# Altium integrated library Xilinx Virtex-5 FPGA.IntLib: 179 symbols (part 1 of 2)
Pins are listed as number, name and electrical type; pins without a type are passive.

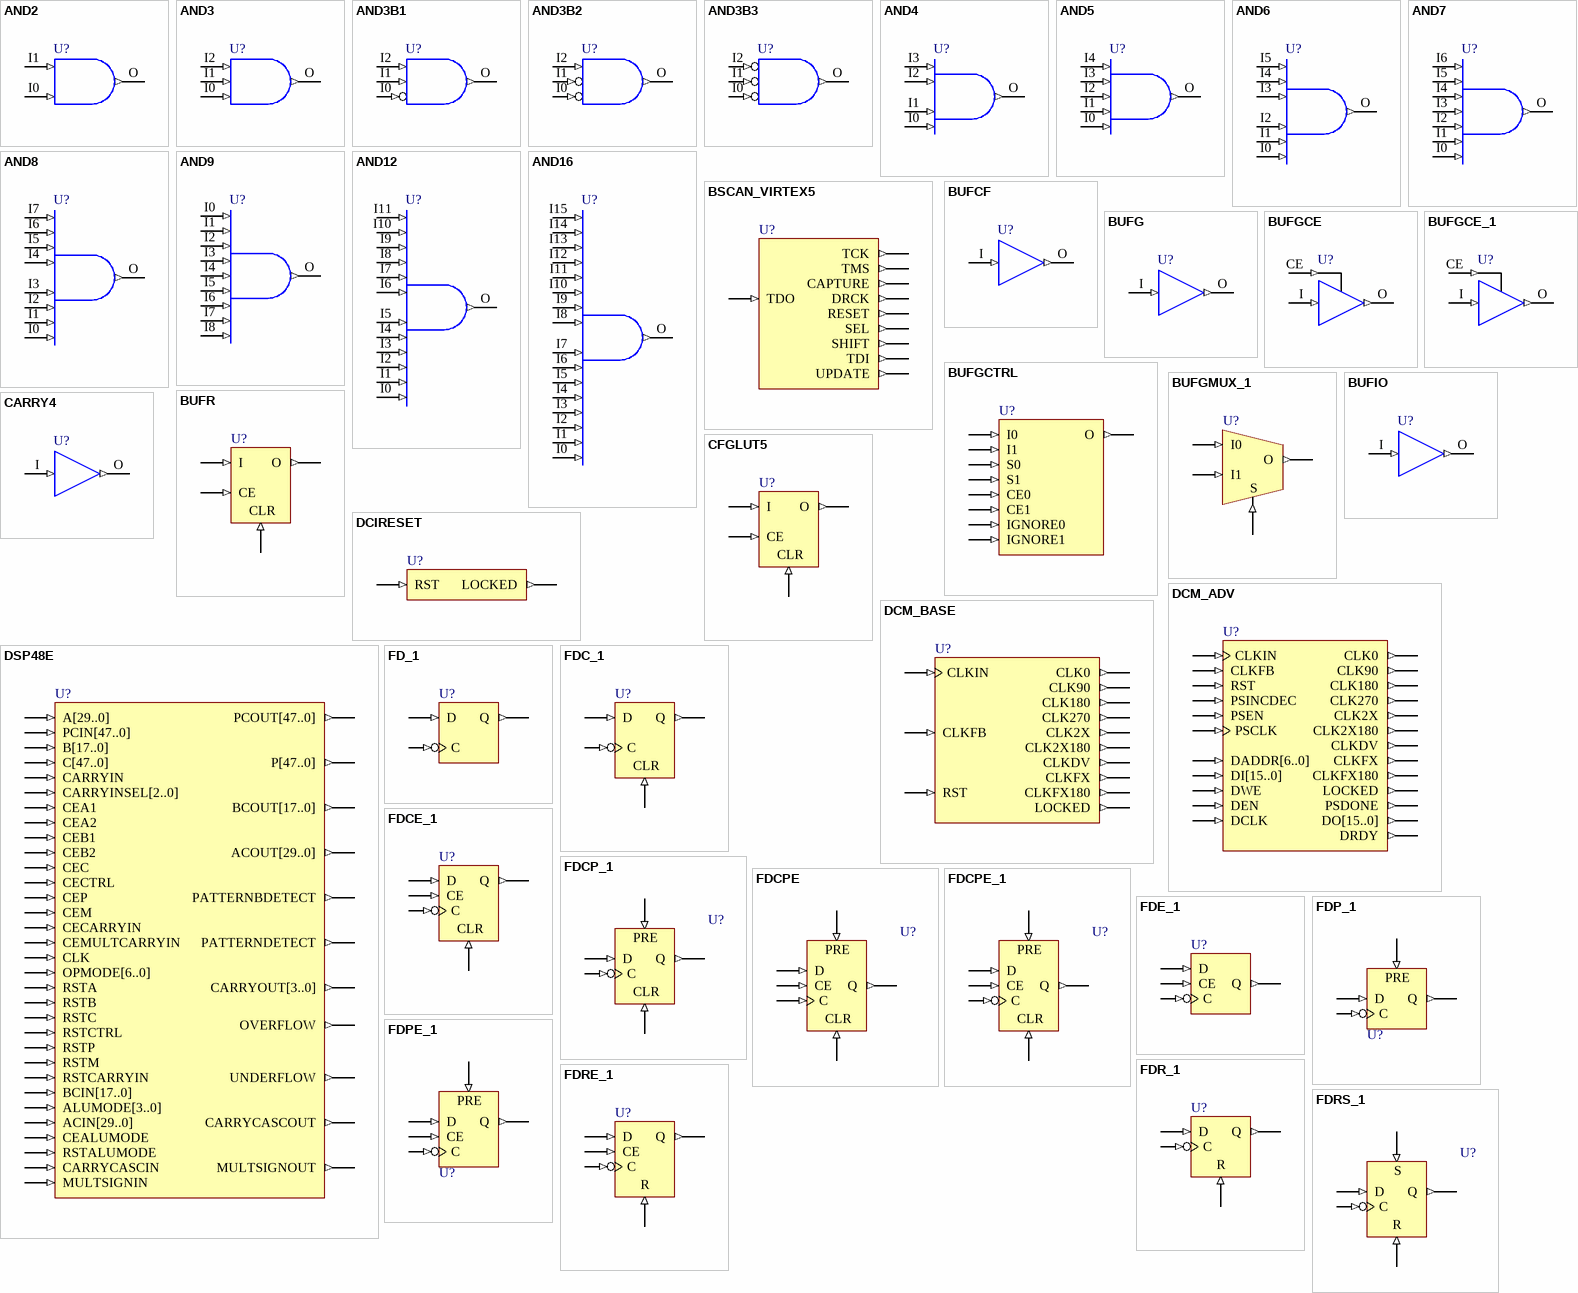
[diagram p0: symbols AND2 to FDRS_1]

## AND2
designator U?
2-Input AND Gate; FPGAVendor: Xilinx; Published: 30-Jun-2006; Publisher: Altium Limited; HelpURL: http://toolbox.xilinx.com/docsan/xilinx82/books/docs/v5lsc/v5lsc.pdf
pins: I0 (in), I1 (in), O (out)

## AND3
designator U?
3-Input AND Gate; FPGAVendor: Xilinx; Published: 30-Jun-2006; Publisher: Altium Limited; HelpURL: http://toolbox.xilinx.com/docsan/xilinx82/books/docs/v5lsc/v5lsc.pdf
pins: I0 (in), I1 (in), I2 (in), O (out)

## AND3B1
designator U?
3-Input AND Gate with One Inverted Input; FPGAVendor: Xilinx; Published: 30-Jun-2006; Publisher: Altium Limited; HelpURL: http://toolbox.xilinx.com/docsan/xilinx82/books/docs/v5lsc/v5lsc.pdf
pins: I0 (in), I1 (in), I2 (in), O (out)

## AND3B2
designator U?
3-Input AND Gate with Two Inverted Inputs; FPGAVendor: Xilinx; Published: 30-Jun-2006; Publisher: Altium Limited; HelpURL: http://toolbox.xilinx.com/docsan/xilinx82/books/docs/v5lsc/v5lsc.pdf
pins: I0 (in), I1 (in), I2 (in), O (out)

## AND3B3
designator U?
3-Input AND Gate with Three Inverted Inputs; FPGAVendor: Xilinx; Published: 30-Jun-2006; Publisher: Altium Limited; HelpURL: http://toolbox.xilinx.com/docsan/xilinx82/books/docs/v5lsc/v5lsc.pdf
pins: I0 (in), I1 (in), I2 (in), O (out)

## AND4
designator U?
4-Input AND Gate; FPGAVendor: Xilinx; Published: 30-Jun-2006; Publisher: Altium Limited; HelpURL: http://toolbox.xilinx.com/docsan/xilinx82/books/docs/v5lsc/v5lsc.pdf
pins: I0 (in), I1 (in), I2 (in), I3 (in), O (out)

## AND5
designator U?
5-Input AND Gate; FPGAVendor: Xilinx; Published: 30-Jun-2006; Publisher: Altium Limited; HelpURL: http://toolbox.xilinx.com/docsan/xilinx82/books/docs/v5lsc/v5lsc.pdf
pins: I0 (in), I1 (in), I2 (in), I3 (in), I4 (in), O (out)

## AND6
designator U?
6-Input AND Gate; FPGAVendor: Xilinx; Published: 30-Jun-2006; Publisher: Altium Limited; HelpURL: http://toolbox.xilinx.com/docsan/xilinx82/books/docs/v5lsc/v5lsc.pdf
pins: I0 (in), I1 (in), I2 (in), I3 (in), I4 (in), I5 (in), O (out)

## AND7
designator U?
7-Input AND Gate; FPGAVendor: Xilinx; Published: 30-Jun-2006; Publisher: Altium Limited; HelpURL: http://toolbox.xilinx.com/docsan/xilinx82/books/docs/v5lsc/v5lsc.pdf
pins: I0 (in), I1 (in), I2 (in), I3 (in), I4 (in), I5 (in), I6 (in), O (out)

## AND8
designator U?
8-Input AND Gate; FPGAVendor: Xilinx; Published: 30-Jun-2006; Publisher: Altium Limited; HelpURL: http://toolbox.xilinx.com/docsan/xilinx82/books/docs/v5lsc/v5lsc.pdf
pins: I0 (in), I1 (in), I2 (in), I3 (in), I4 (in), I5 (in), I6 (in), I7 (in), O (out)

## AND9
designator U?
9-Input AND Gate; FPGAVendor: Xilinx; Published: 30-Jun-2006; Publisher: Altium Limited; HelpURL: http://toolbox.xilinx.com/docsan/xilinx82/books/docs/v5lsc/v5lsc.pdf
pins: I0 (in), I1 (in), I2 (in), I3 (in), I4 (in), I5 (in), I6 (in), I7 (in), I8 (in), O (out)

## AND12
designator U?
12-Input AND Gate; FPGAVendor: Xilinx; Published: 30-Jun-2006; Publisher: Altium Limited; HelpURL: http://toolbox.xilinx.com/docsan/xilinx82/books/docs/v5lsc/v5lsc.pdf
pins: I0 (in), I1 (in), I2 (in), I3 (in), I4 (in), I5 (in), I6 (in), I7 (in), I8 (in), I9 (in), I10 (in), I11 (in), O (out)

## AND16
designator U?
16-Input AND Gate; FPGAVendor: Xilinx; Published: 30-Jun-2006; Publisher: Altium Limited; HelpURL: http://toolbox.xilinx.com/docsan/xilinx82/books/docs/v5lsc/v5lsc.pdf
pins: I0 (in), I1 (in), I2 (in), I3 (in), I4 (in), I5 (in), I6 (in), I7 (in), I8 (in), I9 (in), I10 (in), I11 (in), I12 (in), I13 (in), I14 (in), I15 (in), O (out)

## BSCAN_VIRTEX5
designator U?
Virtex-5 JTAG Boundary-Scan Logic Access; FPGAVendor: Xilinx; Published: 30-Jun-2006; Publisher: Altium Limited; HelpURL: http://toolbox.xilinx.com/docsan/xilinx82/books/docs/v5lsc/v5lsc.pdf
pins: CAPTURE (out), DRCK (out), RESET (out), SEL (out), SHIFT (out), TCK (out), TDI (out), TDO (in), TMS (out), UPDATE (out)

## BUFCF
designator U?
Global Clock Buffer; FPGAVendor: Xilinx; Published: 30-Jun-2006; Publisher: Altium Limited; HelpURL: http://toolbox.xilinx.com/docsan/xilinx82/books/docs/v5lsc/v5lsc.pdf
pins: I (in), O (out)

## BUFG
designator U?
Global Clock Buffer; FPGAVendor: Xilinx; Published: 30-Jun-2006; Publisher: Altium Limited; HelpURL: http://toolbox.xilinx.com/docsan/xilinx82/books/docs/v5lsc/v5lsc.pdf
pins: I (in), O (out)

## BUFGCE
designator U?
Global Clock MUX with Clock Enable and Output State 0; FPGAVendor: Xilinx; Published: 30-Jun-2006; Publisher: Altium Limited; HelpURL: http://toolbox.xilinx.com/docsan/xilinx82/books/docs/v5lsc/v5lsc.pdf
pins: CE (in), I (in), O (out)

## BUFGCE_1
designator U?
Global Clock MUX Buffer with Clock Enable and Output State 1; FPGAVendor: Xilinx; Published: 30-Jun-2006; Publisher: Altium Limited; HelpURL: http://toolbox.xilinx.com/docsan/xilinx82/books/docs/v5lsc/v5lsc.pdf
pins: CE (in), I (in), O (out)

## BUFGCTRL
designator U?
Global Clock MUX Buffer; FPGAVendor: Xilinx; Published: 30-Jun-2006; Publisher: Altium Limited; HelpURL: http://toolbox.xilinx.com/docsan/xilinx82/books/docs/v5lsc/v5lsc.pdf
pins: CE0 (in), CE1 (in), I0 (in), I1 (in), IGNORE0 (in), IGNORE1 (in), O (out), S0 (in), S1 (in)

## BUFGMUX_1
designator U?
Global Clock MUX with Output State 1; FPGAVendor: Xilinx; Published: 30-Jun-2006; Publisher: Altium Limited; HelpURL: http://toolbox.xilinx.com/docsan/xilinx82/books/docs/v5lsc/v5lsc.pdf
pins: I0 (in), I1 (in), O (out), S (in)

## BUFIO
designator U?
Local Clock Buffer for IO; FPGAVendor: Xilinx; Published: 30-Jun-2006; Publisher: Altium Limited; HelpURL: http://toolbox.xilinx.com/docsan/xilinx82/books/docs/v5lsc/v5lsc.pdf
pins: I (in), O (out)

## BUFR
designator U?
Local Clock Buffer for I/O and CLB; FPGAVendor: Xilinx; Published: 30-Jun-2006; Publisher: Altium Limited; HelpURL: http://toolbox.xilinx.com/docsan/xilinx82/books/docs/v5lsc/v5lsc.pdf
pins: CE (in), CLR (in), I (in), O (out)

## CARRY4
designator U?
Fast Carry Logic with Look Ahead; FPGAVendor: Xilinx; Published: 30-Jun-2006; Publisher: Altium Limited; HelpURL: http://toolbox.xilinx.com/docsan/xilinx82/books/docs/v5lsc/v5lsc.pdf
pins: I (in), O (out)

## CFGLUT5
designator U?
5-input Dynamically Reconfigurable Look-Up Table; FPGAVendor: Xilinx; Published: 30-Jun-2006; Publisher: Altium Limited; HelpURL: http://toolbox.xilinx.com/docsan/xilinx82/books/docs/v5lsc/v5lsc.pdf
pins: CE (in), CLR (in), I (in), O (out)

## DCIRESET
designator U?
DCI State Machine Reset (After Configuration Has Been Completed); FPGAVendor: Xilinx; Published: 30-Jun-2006; Publisher: Altium Limited; HelpURL: http://toolbox.xilinx.com/docsan/xilinx82/books/docs/v5lsc/v5lsc.pdf
pins: LOCKED (out), RST (in)

## DCM_ADV
designator U?
Digital Clock Manager with Advanced Features; FPGAVendor: Xilinx; Published: 30-Jun-2006; Publisher: Altium Limited; HelpURL: http://toolbox.xilinx.com/docsan/xilinx82/books/docs/v5lsc/v5lsc.pdf
pins: CLK0 (out), CLK2X (out), CLK2X180 (out), CLK90 (out), CLK180 (out), CLK270 (out), CLKDV (out), CLKFB (in), CLKFX (out), CLKFX180 (out), CLKIN (in), DADDR[6..0] (in), DCLK (in), DEN (in), DI[15..0] (in), DO[15..0] (out), DRDY (out), DWE (in), LOCKED (out), PSCLK (in), PSDONE (out), PSEN (in), PSINCDEC (in), RST (in)

## DCM_BASE
designator U?
Digital Clock Manager with Basic Features; FPGAVendor: Xilinx; Published: 30-Jun-2006; Publisher: Altium Limited; HelpURL: http://toolbox.xilinx.com/docsan/xilinx82/books/docs/v5lsc/v5lsc.pdf
pins: CLK0 (out), CLK2X (out), CLK2X180 (out), CLK90 (out), CLK180 (out), CLK270 (out), CLKDV (out), CLKFB (in), CLKFX (out), CLKFX180 (out), CLKIN (in), LOCKED (out), RST (in)

## DSP48E
designator U?
Multi-functional, Cascadable, 48-bit Output Arithmetic Logic Unit; FPGAVendor: Xilinx; Published: 30-Jun-2006; Publisher: Altium Limited; HelpURL: http://toolbox.xilinx.com/docsan/xilinx82/books/docs/v5lsc/v5lsc.pdf
pins: A[29..0] (in), ACIN[29..0] (in), ACOUT[29..0] (out), ALUMODE[3..0] (in), B[17..0] (in), BCIN[17..0] (in), BCOUT[17..0] (out), C[47..0] (in), CARRYCASCIN (in), CARRYCASCOUT (out), CARRYIN (in), CARRYINSEL[2..0] (in), CARRYOUT[3..0] (out), CEA1 (in), CEA2 (in), CEALUMODE (in), CEB1 (in), CEB2 (in), CEC (in), CECARRYIN (in), CECTRL (in), CEM (in), CEMULTCARRYIN (in), CEP (in), CLK (in), MULTSIGNIN (in), MULTSIGNOUT (out), OPMODE[6..0] (in), OVERFLOW (out), P[47..0] (out), PATTERNBDETECT (out), PATTERNDETECT (out), PCIN[47..0] (in), PCOUT[47..0] (out), RSTA (in), RSTALUMODE (in), RSTB (in), RSTC (in), RSTCARRYIN (in), RSTCTRL (in), RSTM (in), RSTP (in), UNDERFLOW (out)

## FD_1
designator U?
D Flip-Flop with Negative-Edge Clock; FPGAVendor: Xilinx; Published: 30-Jun-2006; Publisher: Altium Limited; HelpURL: http://toolbox.xilinx.com/docsan/xilinx82/books/docs/v5lsc/v5lsc.pdf
pins: C (in), D (in), Q (out)

## FDC_1
designator U?
D Flip-Flop with Negative-Edge Clock and Asynchronous Clear; FPGAVendor: Xilinx; Published: 30-Jun-2006; Publisher: Altium Limited; HelpURL: http://toolbox.xilinx.com/docsan/xilinx82/books/docs/v5lsc/v5lsc.pdf
pins: C (in), CLR (in), D (in), Q (out)

## FDCE_1
designator U?
D Flip-Flop with Negative-Edge Clock, Clock Enable, and Asynchronous Clear; FPGAVendor: Xilinx; Published: 30-Jun-2006; Publisher: Altium Limited; HelpURL: http://toolbox.xilinx.com/docsan/xilinx82/books/docs/v5lsc/v5lsc.pdf
pins: C (in), CE (in), CLR (in), D (in), Q (out)

## FDCP_1
designator U?
D Flip-Flop with Negative-Edge Clock and Asynchronous Preset and Clear; FPGAVendor: Xilinx; Published: 30-Jun-2006; Publisher: Altium Limited; HelpURL: http://toolbox.xilinx.com/docsan/xilinx82/books/docs/v5lsc/v5lsc.pdf
pins: C (in), CLR (in), D (in), PRE (in), Q (out)

## FDCPE
designator U?
D Flip-Flop with Clock Enable and Asynchronous Preset and Clear; FPGAVendor: Xilinx; Published: 30-Jun-2006; Publisher: Altium Limited; HelpURL: http://toolbox.xilinx.com/docsan/xilinx82/books/docs/v5lsc/v5lsc.pdf
pins: C (in), CE (in), CLR (in), D (in), PRE (in), Q (out)

## FDCPE_1
designator U?
D Flip-Flop with Negative-Edge Clock, Clock Enable, and Asynchronous Preset and Clear; FPGAVendor: Xilinx; Published: 30-Jun-2006; Publisher: Altium Limited; HelpURL: http://toolbox.xilinx.com/docsan/xilinx82/books/docs/v5lsc/v5lsc.pdf
pins: C (in), CE (in), CLR (in), D (in), PRE (in), Q (out)

## FDE_1
designator U?
D Flip-Flop with Negative-Edge Clock and Clock Enable; FPGAVendor: Xilinx; Published: 30-Jun-2006; Publisher: Altium Limited; HelpURL: http://toolbox.xilinx.com/docsan/xilinx82/books/docs/v5lsc/v5lsc.pdf
pins: C (in), CE (in), D (in), Q (out)

## FDP_1
designator U?
D Flip-Flop with Negative-Edge Clock and Asynchronous Preset; FPGAVendor: Xilinx; Published: 30-Jun-2006; Publisher: Altium Limited; HelpURL: http://toolbox.xilinx.com/docsan/xilinx82/books/docs/v5lsc/v5lsc.pdf
pins: C (in), D (in), PRE (in), Q (out)

## FDPE_1
designator U?
D Flip-Flop with Negative-Edge Clock, Clock Enable, and Asynchronous Preset; FPGAVendor: Xilinx; Published: 30-Jun-2006; Publisher: Altium Limited; HelpURL: http://toolbox.xilinx.com/docsan/xilinx82/books/docs/v5lsc/v5lsc.pdf
pins: C (in), CE (in), D (in), PRE (in), Q (out)

## FDR_1
designator U?
D Flip-Flop with Negative-Edge Clock and Synchronous Reset; FPGAVendor: Xilinx; Published: 30-Jun-2006; Publisher: Altium Limited; HelpURL: http://toolbox.xilinx.com/docsan/xilinx82/books/docs/v5lsc/v5lsc.pdf
pins: C (in), D (in), Q (out), R (in)

## FDRE_1
designator U?
D Flip-Flop with Negative-Clock Edge, Clock Enable, and Synchronous Reset; FPGAVendor: Xilinx; Published: 30-Jun-2006; Publisher: Altium Limited; HelpURL: http://toolbox.xilinx.com/docsan/xilinx82/books/docs/v5lsc/v5lsc.pdf
pins: C (in), CE (in), D (in), Q (out), R (in)

## FDRS_1
designator U?
D Flip-Flop with Negative-Clock Edge and Synchronous Reset and Set; FPGAVendor: Xilinx; Published: 30-Jun-2006; Publisher: Altium Limited; HelpURL: http://toolbox.xilinx.com/docsan/xilinx82/books/docs/v5lsc/v5lsc.pdf
pins: C (in), D (in), Q (out), R (in), S (in)

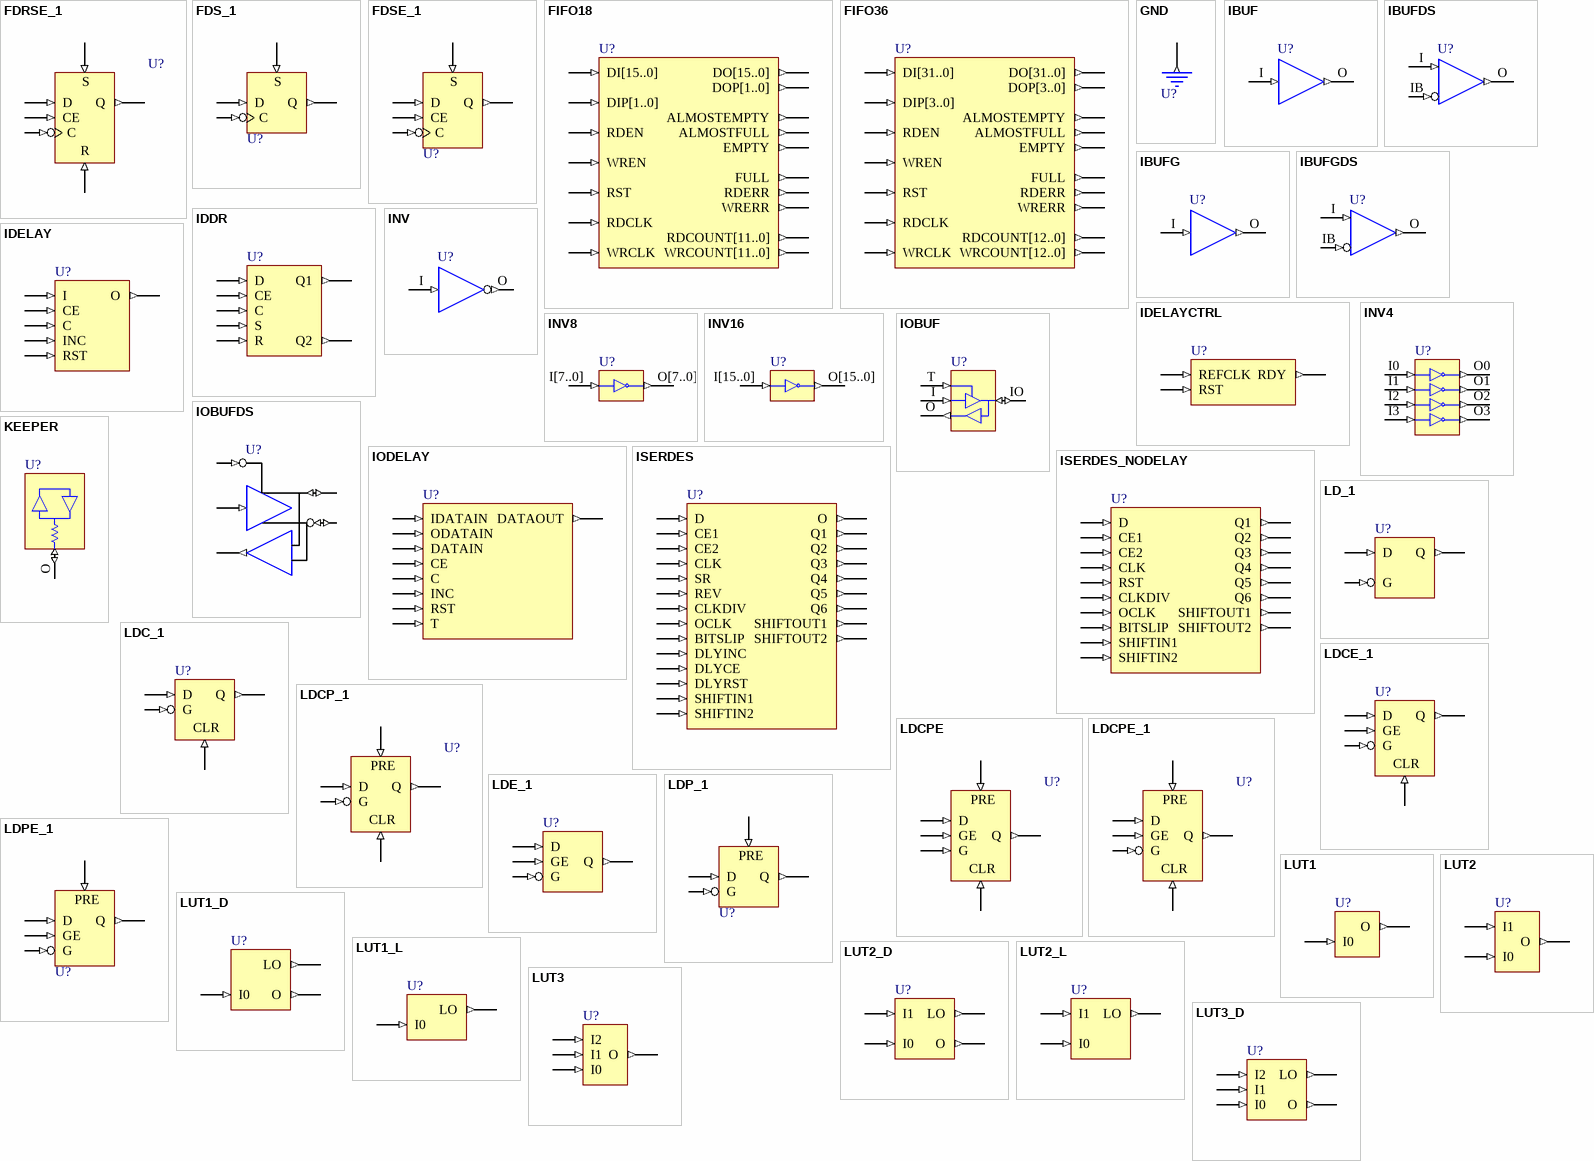
[diagram p1: symbols FDRSE_1 to LUT3_D]

## FDRSE_1
designator U?
D Flip-Flop with Negative-Clock Edge, Synchronous Reset and Set, and Clock Enable; FPGAVendor: Xilinx; Published: 30-Jun-2006; Publisher: Altium Limited; HelpURL: http://toolbox.xilinx.com/docsan/xilinx82/books/docs/v5lsc/v5lsc.pdf
pins: C (in), CE (in), D (in), Q (out), R (in), S (in)

## FDS_1
designator U?
D Flip-Flop with Negative-Edge Clock and Synchronous Set; FPGAVendor: Xilinx; Published: 30-Jun-2006; Publisher: Altium Limited; HelpURL: http://toolbox.xilinx.com/docsan/xilinx82/books/docs/v5lsc/v5lsc.pdf
pins: C (in), D (in), Q (out), S (in)

## FDSE_1
designator U?
D Flip-Flop with Negative-Edge Clock, Clock Enable, and Synchronous Set; FPGAVendor: Xilinx; Published: 30-Jun-2006; Publisher: Altium Limited; HelpURL: http://toolbox.xilinx.com/docsan/xilinx82/books/docs/v5lsc/v5lsc.pdf
pins: C (in), CE (in), D (in), Q (out), S (in)

## FIFO18
designator U?
18Kb FIFO (First In, First Out) Block RAM Memory; FPGAVendor: Xilinx; Published: 30-Jun-2006; Publisher: Altium Limited; HelpURL: http://toolbox.xilinx.com/docsan/xilinx82/books/docs/v5lsc/v5lsc.pdf
pins: ALMOSTEMPTY (out), ALMOSTFULL (out), DI[15..0] (in), DIP[1..0] (in), DO[15..0] (out), DOP[1..0] (out), EMPTY (out), FULL (out), RDCLK (in), RDCOUNT[11..0] (out), RDEN (in), RDERR (out), RST (in), WRCLK (in), WRCOUNT[11..0] (out), WREN (in), WRERR (out)

## FIFO36
designator U?
36Kb FIFO (First In, First Out) block RAM Memory; FPGAVendor: Xilinx; Published: 30-Jun-2006; Publisher: Altium Limited; HelpURL: http://toolbox.xilinx.com/docsan/xilinx82/books/docs/v5lsc/v5lsc.pdf
pins: ALMOSTEMPTY (out), ALMOSTFULL (out), DI[31..0] (in), DIP[3..0] (in), DO[31..0] (out), DOP[3..0] (out), EMPTY (out), FULL (out), RDCLK (in), RDCOUNT[12..0] (out), RDEN (in), RDERR (out), RST (in), WRCLK (in), WRCOUNT[12..0] (out), WREN (in), WRERR (out)

## GND
designator U?
Ground-Connection Signal Tag; FPGAVendor: Xilinx; Published: 30-Jun-2006; Publisher: Altium Limited; HelpURL: http://toolbox.xilinx.com/docsan/xilinx82/books/docs/v5lsc/v5lsc.pdf
pins: G (out)

## IBUF
designator U?
Single-Input Buffer; FPGAVendor: Xilinx; Published: 30-Jun-2006; Publisher: Altium Limited; HelpURL: http://toolbox.xilinx.com/docsan/xilinx82/books/docs/v5lsc/v5lsc.pdf
pins: I (in), O (out)

## IBUFDS
designator U?
Differential Signaling Input Buffer with Selectable I/O Interface; FPGAVendor: Xilinx; Published: 30-Jun-2006; Publisher: Altium Limited; HelpURL: http://toolbox.xilinx.com/docsan/xilinx82/books/docs/v5lsc/v5lsc.pdf
pins: I (in), IB (in), O (out)

## IBUFG
designator U?
Dedicated Input Buffer using the LVTTL standard; FPGAVendor: Xilinx; Published: 30-Jun-2006; Publisher: Altium Limited; HelpURL: http://toolbox.xilinx.com/docsan/xilinx82/books/docs/v5lsc/v5lsc.pdf
pins: I (in), O (out)

## IBUFGDS
designator U?
Dedicated Differential Signaling Input Buffer with Selectable I/O Interface; FPGAVendor: Xilinx; Published: 30-Jun-2006; Publisher: Altium Limited; HelpURL: http://toolbox.xilinx.com/docsan/xilinx82/books/docs/v5lsc/v5lsc.pdf
pins: I (in), IB (in), O (out)

## IDDR
designator U?
A Dedicated Input Register to Receive External Dual Data Rate (DDR) Signals into Virtex-5 FPGAs; FPGAVendor: Xilinx; Published: 30-Jun-2006; Publisher: Altium Limited; HelpURL: http://toolbox.xilinx.com/docsan/xilinx82/books/docs/v5lsc/v5lsc.pdf
pins: C (in), CE (in), D (in), Q1 (out), Q2 (out), R (in), S (in)

## IDELAY
designator U?
Dedicated input variable-tap delay chain; FPGAVendor: Xilinx; Published: 30-Jun-2006; Publisher: Altium Limited; HelpURL: http://toolbox.xilinx.com/docsan/xilinx82/books/docs/v5lsc/v5lsc.pdf
pins: C (in), CE (in), I (in), INC (in), O (out), RST (in)

## IDELAYCTRL
designator U?
Startup calibration module for IDELAY elements; FPGAVendor: Xilinx; Published: 30-Jun-2006; Publisher: Altium Limited; HelpURL: http://toolbox.xilinx.com/docsan/xilinx82/books/docs/v5lsc/v5lsc.pdf
pins: RDY (out), REFCLK (in), RST (in)

## INV
designator U?
Inverter; FPGAVendor: Xilinx; Published: 30-Jun-2006; Publisher: Altium Limited; HelpURL: http://toolbox.xilinx.com/docsan/xilinx82/books/docs/v5lsc/v5lsc.pdf
pins: I (in), O (out)

## INV4
designator U?
4 x Inverters; FPGAVendor: Xilinx; Published: 30-Jun-2006; Publisher: Altium Limited; HelpURL: http://toolbox.xilinx.com/docsan/xilinx82/books/docs/v5lsc/v5lsc.pdf
pins: I0 (in), I1 (in), I2 (in), I3 (in), O0 (out), O1 (out), O2 (out), O3 (out)

## INV8
designator U?
8 x Inverters; FPGAVendor: Xilinx; Published: 30-Jun-2006; Publisher: Altium Limited; HelpURL: http://toolbox.xilinx.com/docsan/xilinx82/books/docs/v5lsc/v5lsc.pdf
pins: I[7..0] (in), O[7..0] (out)

## INV16
designator U?
16 x Inverters; FPGAVendor: Xilinx; Published: 30-Jun-2006; Publisher: Altium Limited; HelpURL: http://toolbox.xilinx.com/docsan/xilinx82/books/docs/v5lsc/v5lsc.pdf
pins: I[15..0] (in), O[15..0] (out)

## IOBUF
designator U?
Bi-Directional Buffer using the LVTTL standard; FPGAVendor: Xilinx; Published: 30-Jun-2006; Publisher: Altium Limited; HelpURL: http://toolbox.xilinx.com/docsan/xilinx82/books/docs/v5lsc/v5lsc.pdf
pins: I (in), IO (io), O (out), T (in)

## IOBUFDS
designator U?
3-State Differential Signaling I/O Buffer with Active Low Output Enable; FPGAVendor: Xilinx; Published: 30-Jun-2006; Publisher: Altium Limited; HelpURL: http://toolbox.xilinx.com/docsan/xilinx82/books/docs/v5lsc/v5lsc.pdf
pins: I (in), IO (io), IOB (io), O (out), T (in)

## IODELAY
designator U?
Input and/or Output Fixed or Variable Delay Element; FPGAVendor: Xilinx; Published: 30-Jun-2006; Publisher: Altium Limited; HelpURL: http://toolbox.xilinx.com/docsan/xilinx82/books/docs/v5lsc/v5lsc.pdf
pins: C (in), CE (in), DATAIN (in), DATAOUT (out), IDATAIN (in), INC (in), ODATAIN (in), RST (in), T (in)

## ISERDES
designator U?
Dedicated I/O Buffer Input Deserializer; FPGAVendor: Xilinx; Published: 30-Jun-2006; Publisher: Altium Limited; HelpURL: http://toolbox.xilinx.com/docsan/xilinx82/books/docs/v5lsc/v5lsc.pdf
pins: BITSLIP (in), CE1 (in), CE2 (in), CLK (in), CLKDIV (in), D (in), DLYCE (in), DLYINC (in), DLYRST (in), O (out), OCLK (in), Q1 (out), Q2 (out), Q3 (out), Q4 (out), Q5 (out), Q6 (out), REV (in), SHIFTIN1 (in), SHIFTIN2 (in), SHIFTOUT1 (out), SHIFTOUT2 (out), SR (in)

## ISERDES_NODELAY
designator U?
Input SERial/DESerializer; FPGAVendor: Xilinx; Published: 30-Jun-2006; Publisher: Altium Limited; HelpURL: http://toolbox.xilinx.com/docsan/xilinx82/books/docs/v5lsc/v5lsc.pdf
pins: BITSLIP (in), CE1 (in), CE2 (in), CLK (in), CLKDIV (in), D (in), OCLK (in), Q1 (out), Q2 (out), Q3 (out), Q4 (out), Q5 (out), Q6 (out), RST (in), SHIFTIN1 (in), SHIFTIN2 (in), SHIFTOUT1 (out), SHIFTOUT2 (out)

## KEEPER
designator U?
KEEPER Symbol; FPGAVendor: Xilinx; Published: 30-Jun-2006; Publisher: Altium Limited; HelpURL: http://toolbox.xilinx.com/docsan/xilinx82/books/docs/v5lsc/v5lsc.pdf
pins: O (io)

## LD_1
designator U?
Transparent Data Latch with Inverted Gate; FPGAVendor: Xilinx; Published: 30-Jun-2006; Publisher: Altium Limited; HelpURL: http://toolbox.xilinx.com/docsan/xilinx82/books/docs/v5lsc/v5lsc.pdf
pins: D (in), G (in), Q (out)

## LDC_1
designator U?
Transparent Data Latch with Asynchronous Clear and Inverted Gate; FPGAVendor: Xilinx; Published: 30-Jun-2006; Publisher: Altium Limited; HelpURL: http://toolbox.xilinx.com/docsan/xilinx82/books/docs/v5lsc/v5lsc.pdf
pins: CLR (in), D (in), G (in), Q (out)

## LDCE_1
designator U?
Transparent Data Latch with Asynchronous Clear, Gate Enable,  and Inverted Gate; FPGAVendor: Xilinx; Published: 30-Jun-2006; Publisher: Altium Limited; HelpURL: http://toolbox.xilinx.com/docsan/xilinx82/books/docs/v5lsc/v5lsc.pdf
pins: CLR (in), D (in), G (in), GE (in), Q (out)

## LDCP_1
designator U?
Transparent Data Latch with Asynchronous Clear and Preset and Inverted Gate; FPGAVendor: Xilinx; Published: 30-Jun-2006; Publisher: Altium Limited; HelpURL: http://toolbox.xilinx.com/docsan/xilinx82/books/docs/v5lsc/v5lsc.pdf
pins: CLR (in), D (in), G (in), PRE (in), Q (out)

## LDCPE
designator U?
Transparent Data Latch with Asynchronous Clear and Preset and Gate Enable; FPGAVendor: Xilinx; Published: 30-Jun-2006; Publisher: Altium Limited; HelpURL: http://toolbox.xilinx.com/docsan/xilinx82/books/docs/v5lsc/v5lsc.pdf
pins: CLR (in), D (in), G (in), GE (in), PRE (in), Q (out)

## LDCPE_1
designator U?
Transparent Data Latch with Asynchronous Clear and Preset, Gate Enable, and Inverted Gate; FPGAVendor: Xilinx; Published: 30-Jun-2006; Publisher: Altium Limited; HelpURL: http://toolbox.xilinx.com/docsan/xilinx82/books/docs/v5lsc/v5lsc.pdf
pins: CLR (in), D (in), G (in), GE (in), PRE (in), Q (out)

## LDE_1
designator U?
Transparent Data Latch with Gate Enable and Inverted Gate; FPGAVendor: Xilinx; Published: 30-Jun-2006; Publisher: Altium Limited; HelpURL: http://toolbox.xilinx.com/docsan/xilinx82/books/docs/v5lsc/v5lsc.pdf
pins: D (in), G (in), GE (in), Q (out)

## LDP_1
designator U?
Transparent Data Latch with Asynchronous Preset and Inverted Gate; FPGAVendor: Xilinx; Published: 30-Jun-2006; Publisher: Altium Limited; HelpURL: http://toolbox.xilinx.com/docsan/xilinx82/books/docs/v5lsc/v5lsc.pdf
pins: D (in), G (in), PRE (in), Q (out)

## LDPE_1
designator U?
Transparent Data Latch with Asynchronous Preset, Gate Enable, and Inverted Gate; FPGAVendor: Xilinx; Published: 30-Jun-2006; Publisher: Altium Limited; HelpURL: http://toolbox.xilinx.com/docsan/xilinx82/books/docs/v5lsc/v5lsc.pdf
pins: D (in), G (in), GE (in), PRE (in), Q (out)

## LUT1
designator U?
1-Bit Look-Up-Table with General Output; FPGAVendor: Xilinx; Published: 30-Jun-2006; Publisher: Altium Limited; HelpURL: http://toolbox.xilinx.com/docsan/xilinx82/books/docs/v5lsc/v5lsc.pdf
pins: I0 (in), O (out)

## LUT1_D
designator U?
1-Bit Look-Up-Table with Dual Output; FPGAVendor: Xilinx; Published: 30-Jun-2006; Publisher: Altium Limited; HelpURL: http://toolbox.xilinx.com/docsan/xilinx82/books/docs/v5lsc/v5lsc.pdf
pins: I0 (in), LO (out), O (out)

## LUT1_L
designator U?
1-Bit Look-Up-Table with Local Output; FPGAVendor: Xilinx; Published: 30-Jun-2006; Publisher: Altium Limited; HelpURL: http://toolbox.xilinx.com/docsan/xilinx82/books/docs/v5lsc/v5lsc.pdf
pins: I0 (in), LO (out)

## LUT2
designator U?
2-Bit Look-Up-Table with General Output; FPGAVendor: Xilinx; Published: 30-Jun-2006; Publisher: Altium Limited; HelpURL: http://toolbox.xilinx.com/docsan/xilinx82/books/docs/v5lsc/v5lsc.pdf
pins: I0 (in), I1 (in), O (out)

## LUT2_D
designator U?
2-Bit Look-Up-Table with Dual Output; FPGAVendor: Xilinx; Published: 30-Jun-2006; Publisher: Altium Limited; HelpURL: http://toolbox.xilinx.com/docsan/xilinx82/books/docs/v5lsc/v5lsc.pdf
pins: I0 (in), I1 (in), LO (out), O (out)

## LUT2_L
designator U?
2-Bit Look-Up-Table with Local Output; FPGAVendor: Xilinx; Published: 30-Jun-2006; Publisher: Altium Limited; HelpURL: http://toolbox.xilinx.com/docsan/xilinx82/books/docs/v5lsc/v5lsc.pdf
pins: I0 (in), I1 (in), LO (out)

## LUT3
designator U?
3-Bit Look-Up-Table with General Output; FPGAVendor: Xilinx; Published: 30-Jun-2006; Publisher: Altium Limited; HelpURL: http://toolbox.xilinx.com/docsan/xilinx82/books/docs/v5lsc/v5lsc.pdf
pins: I0 (in), I1 (in), I2 (in), O (out)

## LUT3_D
designator U?
3-Bit Look-Up-Table with Dual Output; FPGAVendor: Xilinx; Published: 30-Jun-2006; Publisher: Altium Limited; HelpURL: http://toolbox.xilinx.com/docsan/xilinx82/books/docs/v5lsc/v5lsc.pdf
pins: I0 (in), I1 (in), I2 (in), LO (out), O (out)

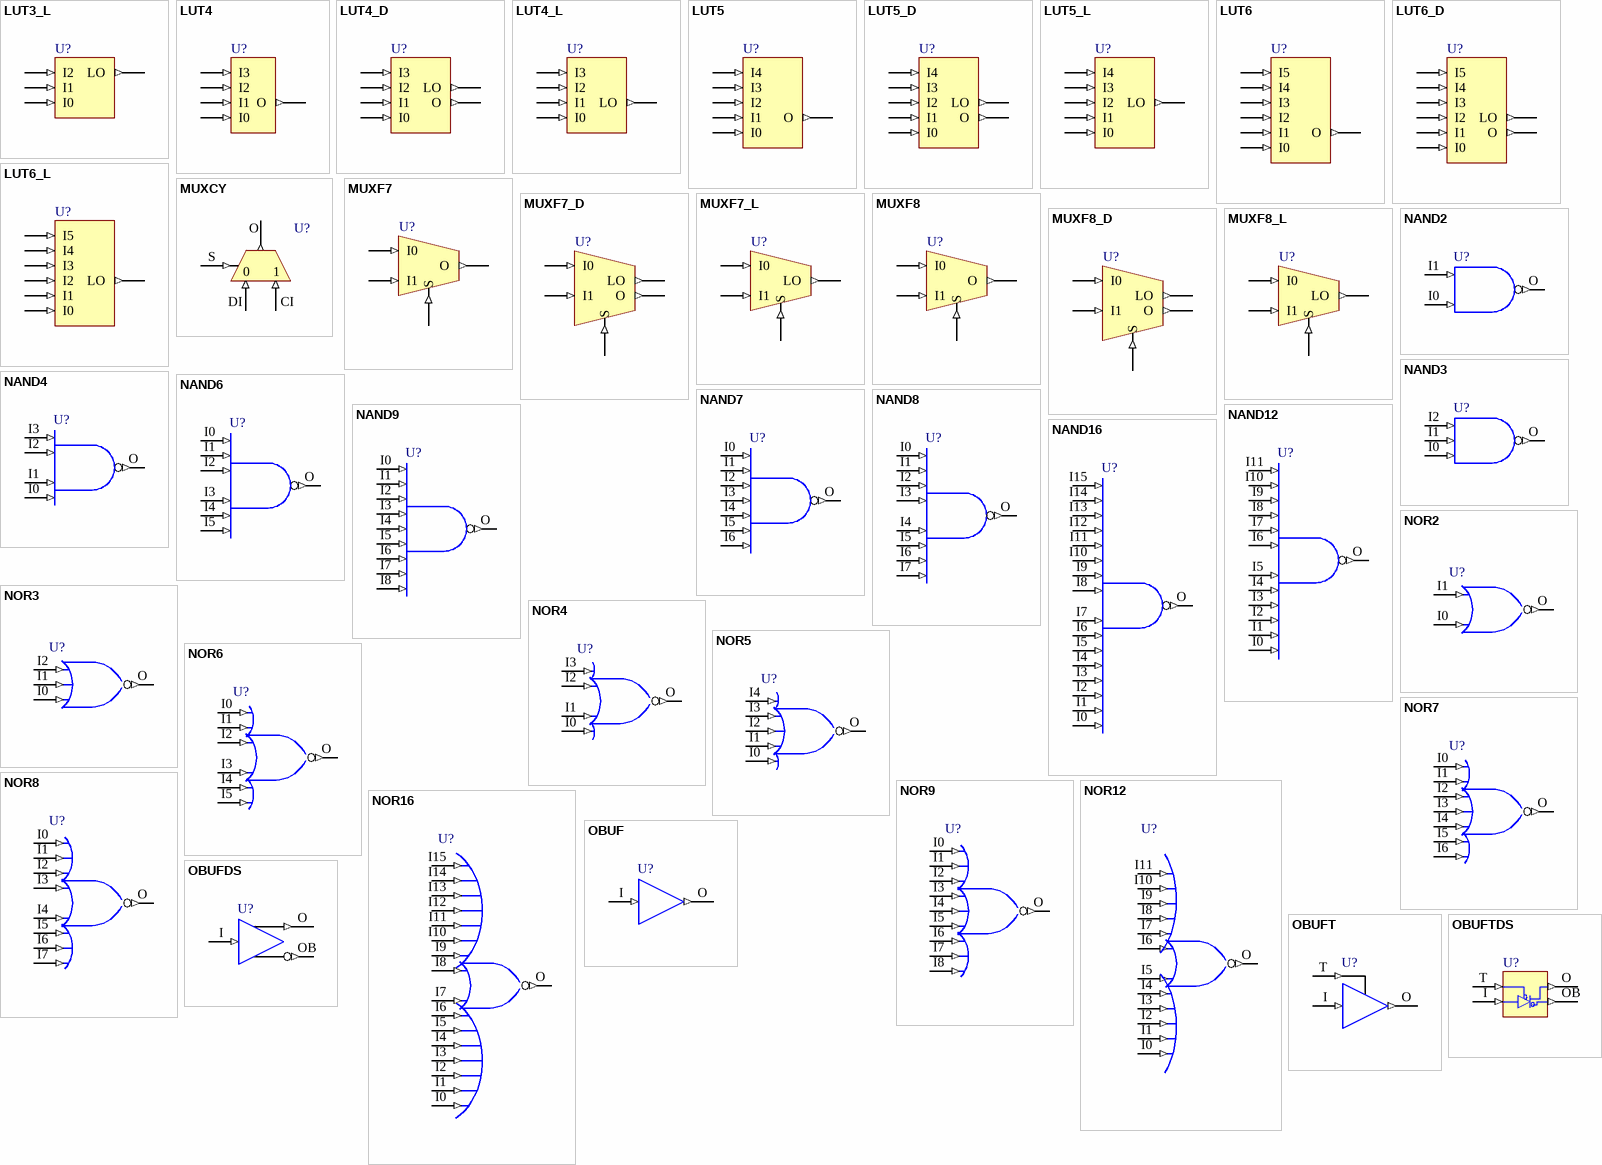
[diagram p2: symbols LUT3_L to OBUFTDS]

## LUT3_L
designator U?
3-Bit Look-Up-Table with Local Output; FPGAVendor: Xilinx; Published: 30-Jun-2006; Publisher: Altium Limited; HelpURL: http://toolbox.xilinx.com/docsan/xilinx82/books/docs/v5lsc/v5lsc.pdf
pins: I0 (in), I1 (in), I2 (in), LO (out)

## LUT4
designator U?
4-Bit Look-Up-Table with General Output; FPGAVendor: Xilinx; Published: 30-Jun-2006; Publisher: Altium Limited; HelpURL: http://toolbox.xilinx.com/docsan/xilinx82/books/docs/v5lsc/v5lsc.pdf
pins: I0 (in), I1 (in), I2 (in), I3 (in), O (out)

## LUT4_D
designator U?
4-Bit Look-Up-Table with Dual Output; FPGAVendor: Xilinx; Published: 30-Jun-2006; Publisher: Altium Limited; HelpURL: http://toolbox.xilinx.com/docsan/xilinx82/books/docs/v5lsc/v5lsc.pdf
pins: I0 (in), I1 (in), I2 (in), I3 (in), LO (out), O (out)

## LUT4_L
designator U?
4-Bit Look-Up-Table with Local Output; FPGAVendor: Xilinx; Published: 30-Jun-2006; Publisher: Altium Limited; HelpURL: http://toolbox.xilinx.com/docsan/xilinx82/books/docs/v5lsc/v5lsc.pdf
pins: I0 (in), I1 (in), I2 (in), I3 (in), LO (out)

## LUT5
designator U?
5 Input, 1 Output, Look-Up-Table; FPGAVendor: Xilinx; Published: 30-Jun-2006; Publisher: Altium Limited; HelpURL: http://toolbox.xilinx.com/docsan/xilinx82/books/docs/v5lsc/v5lsc.pdf
pins: I0 (in), I1 (in), I2 (in), I3 (in), I4 (in), O (out)

## LUT5_D
designator U?
5 Input, 1 Output, Look-Up-Table; FPGAVendor: Xilinx; Published: 30-Jun-2006; Publisher: Altium Limited; HelpURL: http://toolbox.xilinx.com/docsan/xilinx82/books/docs/v5lsc/v5lsc.pdf
pins: I0 (in), I1 (in), I2 (in), I3 (in), I4 (in), LO (out), O (out)

## LUT5_L
designator U?
5 Input, 1 Output, Look-Up-Table; FPGAVendor: Xilinx; Published: 30-Jun-2006; Publisher: Altium Limited; HelpURL: http://toolbox.xilinx.com/docsan/xilinx82/books/docs/v5lsc/v5lsc.pdf
pins: I0 (in), I1 (in), I2 (in), I3 (in), I4 (in), LO (out)

## LUT6
designator U?
6 Input, 1 Output, Look-Up-Table; FPGAVendor: Xilinx; Published: 30-Jun-2006; Publisher: Altium Limited; HelpURL: http://toolbox.xilinx.com/docsan/xilinx82/books/docs/v5lsc/v5lsc.pdf
pins: I0 (in), I1 (in), I2 (in), I3 (in), I4 (in), I5 (in), O (out)

## LUT6_D
designator U?
6 Input, 1 Output, Look-Up-Table; FPGAVendor: Xilinx; Published: 30-Jun-2006; Publisher: Altium Limited; HelpURL: http://toolbox.xilinx.com/docsan/xilinx82/books/docs/v5lsc/v5lsc.pdf
pins: I0 (in), I1 (in), I2 (in), I3 (in), I4 (in), I5 (in), LO (out), O (out)

## LUT6_L
designator U?
6 Input, 1 Output, Look-Up-Table; FPGAVendor: Xilinx; Published: 30-Jun-2006; Publisher: Altium Limited; HelpURL: http://toolbox.xilinx.com/docsan/xilinx82/books/docs/v5lsc/v5lsc.pdf
pins: I0 (in), I1 (in), I2 (in), I3 (in), I4 (in), I5 (in), LO (out)

## MUXCY
designator U?
2-to-1 Multiplexer for Carry Logic with General Output; FPGAVendor: Xilinx; Published: 30-Jun-2006; Publisher: Altium Limited; HelpURL: http://toolbox.xilinx.com/docsan/xilinx82/books/docs/v5lsc/v5lsc.pdf
pins: CI (in), DI (in), O (out), S (in)
text: 0; 1

## MUXF7
designator U?
2-to-1 Look-Up Table Multiplexer with General Output; FPGAVendor: Xilinx; Published: 30-Jun-2006; Publisher: Altium Limited; HelpURL: http://toolbox.xilinx.com/docsan/xilinx82/books/docs/v5lsc/v5lsc.pdf
pins: I0 (in), I1 (in), O (out), S (in)

## MUXF7_D
designator U?
2-to-1 Look-Up Table Multiplexer with Dual Output; FPGAVendor: Xilinx; Published: 30-Jun-2006; Publisher: Altium Limited; HelpURL: http://toolbox.xilinx.com/docsan/xilinx82/books/docs/v5lsc/v5lsc.pdf
pins: I0 (in), I1 (in), LO (out), O (out), S (in)

## MUXF7_L
designator U?
2-to-1 Look-Up Table Multiplexer with Local Output; FPGAVendor: Xilinx; Published: 30-Jun-2006; Publisher: Altium Limited; HelpURL: http://toolbox.xilinx.com/docsan/xilinx82/books/docs/v5lsc/v5lsc.pdf
pins: I0 (in), I1 (in), LO (out), S (in)

## MUXF8
designator U?
2-to-1 Look-Up Table Multiplexer with General Output; FPGAVendor: Xilinx; Published: 30-Jun-2006; Publisher: Altium Limited; HelpURL: http://toolbox.xilinx.com/docsan/xilinx82/books/docs/v5lsc/v5lsc.pdf
pins: I0 (in), I1 (in), O (out), S (in)

## MUXF8_D
designator U?
2-to-1 Look-Up Table Multiplexer with Dual Output; FPGAVendor: Xilinx; Published: 30-Jun-2006; Publisher: Altium Limited; HelpURL: http://toolbox.xilinx.com/docsan/xilinx82/books/docs/v5lsc/v5lsc.pdf
pins: I0 (in), I1 (in), LO (out), O (out), S (in)

## MUXF8_L
designator U?
2-to-1 Look-Up Table Multiplexer with Local Output; FPGAVendor: Xilinx; Published: 30-Jun-2006; Publisher: Altium Limited; HelpURL: http://toolbox.xilinx.com/docsan/xilinx82/books/docs/v5lsc/v5lsc.pdf
pins: I0 (in), I1 (in), LO (out), S (in)

## NAND2
designator U?
2-Input NAND Gate; FPGAVendor: Xilinx; Published: 30-Jun-2006; Publisher: Altium Limited; HelpURL: http://toolbox.xilinx.com/docsan/xilinx82/books/docs/v5lsc/v5lsc.pdf
pins: I0 (in), I1 (in), O (out)

## NAND3
designator U?
3-Input NAND Gate; FPGAVendor: Xilinx; Published: 30-Jun-2006; Publisher: Altium Limited; HelpURL: http://toolbox.xilinx.com/docsan/xilinx82/books/docs/v5lsc/v5lsc.pdf
pins: I0 (in), I1 (in), I2 (in), O (out)

## NAND4
designator U?
4-Input NAND Gate; FPGAVendor: Xilinx; Published: 30-Jun-2006; Publisher: Altium Limited; HelpURL: http://toolbox.xilinx.com/docsan/xilinx82/books/docs/v5lsc/v5lsc.pdf
pins: I0 (in), I1 (in), I2 (in), I3 (in), O (out)

## NAND6
designator U?
6-Input NAND Gate; FPGAVendor: Xilinx; Published: 30-Jun-2006; Publisher: Altium Limited; HelpURL: http://toolbox.xilinx.com/docsan/xilinx82/books/docs/v5lsc/v5lsc.pdf
pins: I0 (in), I1 (in), I2 (in), I3 (in), I4 (in), I5 (in), O (out)

## NAND7
designator U?
7-Input NAND Gate; FPGAVendor: Xilinx; Published: 30-Jun-2006; Publisher: Altium Limited; HelpURL: http://toolbox.xilinx.com/docsan/xilinx82/books/docs/v5lsc/v5lsc.pdf
pins: I0 (in), I1 (in), I2 (in), I3 (in), I4 (in), I5 (in), I6 (in), O (out)

## NAND8
designator U?
8-Input NAND Gate; FPGAVendor: Xilinx; Published: 30-Jun-2006; Publisher: Altium Limited; HelpURL: http://toolbox.xilinx.com/docsan/xilinx82/books/docs/v5lsc/v5lsc.pdf
pins: I0 (in), I1 (in), I2 (in), I3 (in), I4 (in), I5 (in), I6 (in), I7 (in), O (out)

## NAND9
designator U?
9-Input NAND Gate; FPGAVendor: Xilinx; Published: 30-Jun-2006; Publisher: Altium Limited; HelpURL: http://toolbox.xilinx.com/docsan/xilinx82/books/docs/v5lsc/v5lsc.pdf
pins: I0 (in), I1 (in), I2 (in), I3 (in), I4 (in), I5 (in), I6 (in), I7 (in), I8 (in), O (out)

## NAND12
designator U?
12-Input NAND Gate; FPGAVendor: Xilinx; Published: 30-Jun-2006; Publisher: Altium Limited; HelpURL: http://toolbox.xilinx.com/docsan/xilinx82/books/docs/v5lsc/v5lsc.pdf
pins: I0 (in), I1 (in), I2 (in), I3 (in), I4 (in), I5 (in), I6 (in), I7 (in), I8 (in), I9 (in), I10 (in), I11 (in), O (out)

## NAND16
designator U?
16-Input NAND Gate; FPGAVendor: Xilinx; Published: 30-Jun-2006; Publisher: Altium Limited; HelpURL: http://toolbox.xilinx.com/docsan/xilinx82/books/docs/v5lsc/v5lsc.pdf
pins: I0 (in), I1 (in), I2 (in), I3 (in), I4 (in), I5 (in), I6 (in), I7 (in), I8 (in), I9 (in), I10 (in), I11 (in), I12 (in), I13 (in), I14 (in), I15 (in), O (out)

## NOR2
designator U?
2-Input NOR Gate; FPGAVendor: Xilinx; Published: 30-Jun-2006; Publisher: Altium Limited; HelpURL: http://toolbox.xilinx.com/docsan/xilinx82/books/docs/v5lsc/v5lsc.pdf
pins: I0 (in), I1 (in), O (out)

## NOR3
designator U?
3-Input NOR Gate; FPGAVendor: Xilinx; Published: 30-Jun-2006; Publisher: Altium Limited; HelpURL: http://toolbox.xilinx.com/docsan/xilinx82/books/docs/v5lsc/v5lsc.pdf
pins: I0 (in), I1 (in), I2 (in), O (out)

## NOR4
designator U?
4-Input NOR Gate; FPGAVendor: Xilinx; Published: 30-Jun-2006; Publisher: Altium Limited; HelpURL: http://toolbox.xilinx.com/docsan/xilinx82/books/docs/v5lsc/v5lsc.pdf
pins: I0 (in), I1 (in), I2 (in), I3 (in), O (out)

## NOR5
designator U?
5-Input NOR Gate; FPGAVendor: Xilinx; Published: 30-Jun-2006; Publisher: Altium Limited; HelpURL: http://toolbox.xilinx.com/docsan/xilinx82/books/docs/v5lsc/v5lsc.pdf
pins: I0 (in), I1 (in), I2 (in), I3 (in), I4 (in), O (out)

## NOR6
designator U?
6-Input NOR Gate; FPGAVendor: Xilinx; Published: 30-Jun-2006; Publisher: Altium Limited; HelpURL: http://toolbox.xilinx.com/docsan/xilinx82/books/docs/v5lsc/v5lsc.pdf
pins: I0 (in), I1 (in), I2 (in), I3 (in), I4 (in), I5 (in), O (out)

## NOR7
designator U?
7-Input NOR Gate; FPGAVendor: Xilinx; Published: 30-Jun-2006; Publisher: Altium Limited; HelpURL: http://toolbox.xilinx.com/docsan/xilinx82/books/docs/v5lsc/v5lsc.pdf
pins: I0 (in), I1 (in), I2 (in), I3 (in), I4 (in), I5 (in), I6 (in), O (out)

## NOR8
designator U?
8-Input NOR Gate; FPGAVendor: Xilinx; Published: 30-Jun-2006; Publisher: Altium Limited; HelpURL: http://toolbox.xilinx.com/docsan/xilinx82/books/docs/v5lsc/v5lsc.pdf
pins: I0 (in), I1 (in), I2 (in), I3 (in), I4 (in), I5 (in), I6 (in), I7 (in), O (out)

## NOR9
designator U?
9-Input NOR Gate; FPGAVendor: Xilinx; Published: 30-Jun-2006; Publisher: Altium Limited; HelpURL: http://toolbox.xilinx.com/docsan/xilinx82/books/docs/v5lsc/v5lsc.pdf
pins: I0 (in), I1 (in), I2 (in), I3 (in), I4 (in), I5 (in), I6 (in), I7 (in), I8 (in), O (out)

## NOR12
designator U?
12-Input NOR Gate; FPGAVendor: Xilinx; Published: 30-Jun-2006; Publisher: Altium Limited; HelpURL: http://toolbox.xilinx.com/docsan/xilinx82/books/docs/v5lsc/v5lsc.pdf
pins: I0 (in), I1 (in), I2 (in), I3 (in), I4 (in), I5 (in), I6 (in), I7 (in), I8 (in), I9 (in), I10 (in), I11 (in), O (out)

## NOR16
designator U?
16-Input NOR Gate; FPGAVendor: Xilinx; Published: 30-Jun-2006; Publisher: Altium Limited; HelpURL: http://toolbox.xilinx.com/docsan/xilinx82/books/docs/v5lsc/v5lsc.pdf
pins: I0 (in), I1 (in), I2 (in), I3 (in), I4 (in), I5 (in), I6 (in), I7 (in), I8 (in), I9 (in), I10 (in), I11 (in), I12 (in), I13 (in), I14 (in), I15 (in), O (out)

## OBUF
designator U?
Single-Output Buffer (using the LVTTL standard); FPGAVendor: Xilinx; Published: 30-Jun-2006; Publisher: Altium Limited; HelpURL: http://toolbox.xilinx.com/docsan/xilinx82/books/docs/v5lsc/v5lsc.pdf
pins: I (in), O (out)

## OBUFDS
designator U?
Differential Signaling Output Buffer with Selectable I/O Interface; FPGAVendor: Xilinx; Published: 30-Jun-2006; Publisher: Altium Limited; HelpURL: http://toolbox.xilinx.com/docsan/xilinx82/books/docs/v5lsc/v5lsc.pdf
pins: I (in), O (out), OB (out)

## OBUFT
designator U?
Single 3-State Output Buffer with Active-Low Output Enable; FPGAVendor: Xilinx; Published: 30-Jun-2006; Publisher: Altium Limited; HelpURL: http://toolbox.xilinx.com/docsan/xilinx82/books/docs/v5lsc/v5lsc.pdf
pins: I (in), O (out), T (in)

## OBUFTDS
designator U?
3-State Output Buffer with Differential Signaling, Active-Low Output Enable, and Selectable I/O Interface; FPGAVendor: Xilinx; Published: 30-Jun-2006; Publisher: Altium Limited; HelpURL: http://toolbox.xilinx.com/docsan/xilinx82/books/docs/v5lsc/v5lsc.pdf
pins: I (in), O (out), OB (out), T (in)

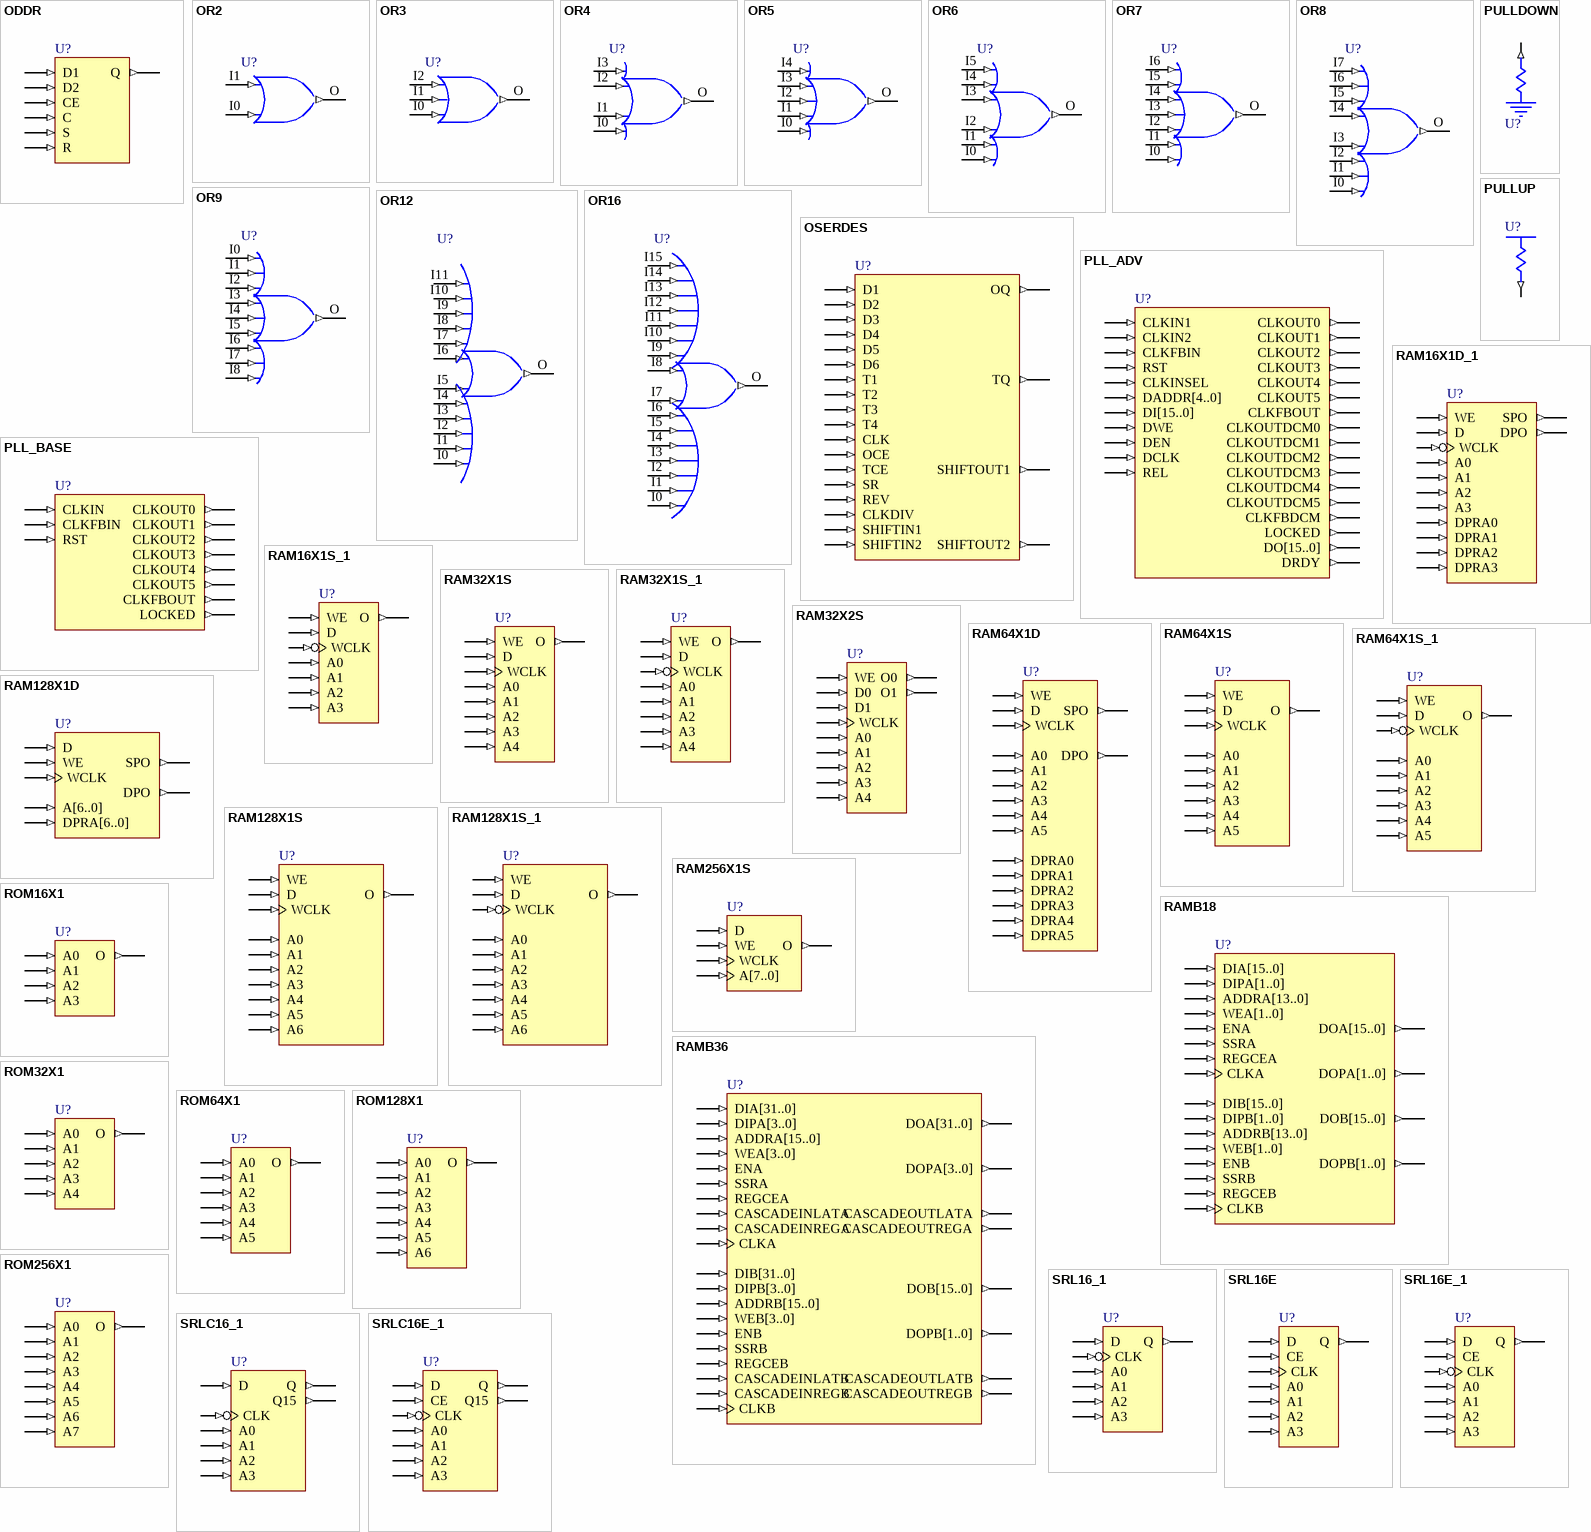
[diagram p3: symbols ODDR to SRLC16E_1]

## ODDR
designator U?
A dedicated output registers to transmit dual data rate (DDR) signals from Virtex-5 FPGAs; FPGAVendor: Xilinx; Published: 30-Jun-2006; Publisher: Altium Limited; HelpURL: http://toolbox.xilinx.com/docsan/xilinx82/books/docs/v5lsc/v5lsc.pdf
pins: C (in), CE (in), D1 (in), D2 (in), Q (out), R (in), S (in)

## OR2
designator U?
2-Input OR Gate; FPGAVendor: Xilinx; Published: 30-Jun-2006; Publisher: Altium Limited; HelpURL: http://toolbox.xilinx.com/docsan/xilinx82/books/docs/v5lsc/v5lsc.pdf
pins: I0 (in), I1 (in), O (out)

## OR3
designator U?
3-Input OR Gate; FPGAVendor: Xilinx; Published: 30-Jun-2006; Publisher: Altium Limited; HelpURL: http://toolbox.xilinx.com/docsan/xilinx82/books/docs/v5lsc/v5lsc.pdf
pins: I0 (in), I1 (in), I2 (in), O (out)

## OR4
designator U?
4-Input OR Gate; FPGAVendor: Xilinx; Published: 30-Jun-2006; Publisher: Altium Limited; HelpURL: http://toolbox.xilinx.com/docsan/xilinx82/books/docs/v5lsc/v5lsc.pdf
pins: I0 (in), I1 (in), I2 (in), I3 (in), O (out)

## OR5
designator U?
5-Input OR Gate; FPGAVendor: Xilinx; Published: 30-Jun-2006; Publisher: Altium Limited; HelpURL: http://toolbox.xilinx.com/docsan/xilinx82/books/docs/v5lsc/v5lsc.pdf
pins: I0 (in), I1 (in), I2 (in), I3 (in), I4 (in), O (out)

## OR6
designator U?
6-Input OR Gate; FPGAVendor: Xilinx; Published: 30-Jun-2006; Publisher: Altium Limited; HelpURL: http://toolbox.xilinx.com/docsan/xilinx82/books/docs/v5lsc/v5lsc.pdf
pins: I0 (in), I1 (in), I2 (in), I3 (in), I4 (in), I5 (in), O (out)

## OR7
designator U?
7-Input OR Gate; FPGAVendor: Xilinx; Published: 30-Jun-2006; Publisher: Altium Limited; HelpURL: http://toolbox.xilinx.com/docsan/xilinx82/books/docs/v5lsc/v5lsc.pdf
pins: I0 (in), I1 (in), I2 (in), I3 (in), I4 (in), I5 (in), I6 (in), O (out)

## OR8
designator U?
8-Input OR Gate; FPGAVendor: Xilinx; Published: 30-Jun-2006; Publisher: Altium Limited; HelpURL: http://toolbox.xilinx.com/docsan/xilinx82/books/docs/v5lsc/v5lsc.pdf
pins: I0 (in), I1 (in), I2 (in), I3 (in), I4 (in), I5 (in), I6 (in), I7 (in), O (out)

## OR9
designator U?
9-Input OR Gate; FPGAVendor: Xilinx; Published: 30-Jun-2006; Publisher: Altium Limited; HelpURL: http://toolbox.xilinx.com/docsan/xilinx82/books/docs/v5lsc/v5lsc.pdf
pins: I0 (in), I1 (in), I2 (in), I3 (in), I4 (in), I5 (in), I6 (in), I7 (in), I8 (in), O (out)

## OR12
designator U?
12-Input OR Gate; FPGAVendor: Xilinx; Published: 30-Jun-2006; Publisher: Altium Limited; HelpURL: http://toolbox.xilinx.com/docsan/xilinx82/books/docs/v5lsc/v5lsc.pdf
pins: I0 (in), I1 (in), I2 (in), I3 (in), I4 (in), I5 (in), I6 (in), I7 (in), I8 (in), I9 (in), I10 (in), I11 (in), O (out)

## OR16
designator U?
16-Input OR Gate; FPGAVendor: Xilinx; Published: 30-Jun-2006; Publisher: Altium Limited; HelpURL: http://toolbox.xilinx.com/docsan/xilinx82/books/docs/v5lsc/v5lsc.pdf
pins: I0 (in), I1 (in), I2 (in), I3 (in), I4 (in), I5 (in), I6 (in), I7 (in), I8 (in), I9 (in), I10 (in), I11 (in), I12 (in), I13 (in), I14 (in), I15 (in), O (out)

## OSERDES
designator U?
Provides a way for the user to easily implement source synchronous interface by using the OSERDES module; FPGAVendor: Xilinx; Published: 30-Jun-2006; Publisher: Altium Limited; HelpURL: http://toolbox.xilinx.com/docsan/xilinx82/books/docs/v5lsc/v5lsc.pdf
pins: CLK (in), CLKDIV (in), D1 (in), D2 (in), D3 (in), D4 (in), D5 (in), D6 (in), OCE (in), OQ (out), REV (in), SHIFTIN1 (in), SHIFTIN2 (in), SHIFTOUT1 (out), SHIFTOUT2 (out), SR (in), T1 (in), T2 (in), T3 (in), T4 (in), TCE (in), TQ (out)

## PLL_ADV
designator U?
Advanced Phase Locked Loop Clock Circuit; FPGAVendor: Xilinx; Published: 30-Jun-2006; Publisher: Altium Limited; HelpURL: http://toolbox.xilinx.com/docsan/xilinx82/books/docs/v5lsc/v5lsc.pdf
pins: CLKFBDCM (out), CLKFBIN (in), CLKFBOUT (out), CLKIN1 (in), CLKIN2 (in), CLKINSEL (in), CLKOUT0 (out), CLKOUT1 (out), CLKOUT2 (out), CLKOUT3 (out), CLKOUT4 (out), CLKOUT5 (out), CLKOUTDCM0 (out), CLKOUTDCM1 (out), CLKOUTDCM2 (out), CLKOUTDCM3 (out), CLKOUTDCM4 (out), CLKOUTDCM5 (out), DADDR[4..0] (in), DCLK (in), DEN (in), DI[15..0] (in), DO[15..0] (out), DRDY (out), DWE (in), LOCKED (out), REL (in), RST (in)

## PLL_BASE
designator U?
Basic Phase Locked Loop Clock Circuit; FPGAVendor: Xilinx; Published: 30-Jun-2006; Publisher: Altium Limited; HelpURL: http://toolbox.xilinx.com/docsan/xilinx82/books/docs/v5lsc/v5lsc.pdf
pins: CLKFBIN (in), CLKFBOUT (out), CLKIN (in), CLKOUT0 (out), CLKOUT1 (out), CLKOUT2 (out), CLKOUT3 (out), CLKOUT4 (out), CLKOUT5 (out), LOCKED (out), RST (in)

## PULLDOWN
designator U?
Resistor to GND for Input Pads; FPGAVendor: Xilinx; Published: 30-Jun-2006; Publisher: Altium Limited; HelpURL: http://toolbox.xilinx.com/docsan/xilinx82/books/docs/v5lsc/v5lsc.pdf
pins: O (out)

## PULLUP
designator U?
Resistor to VCC for Input PADs, Open-Drain, and 3-State Outputs; FPGAVendor: Xilinx; Published: 30-Jun-2006; Publisher: Altium Limited; HelpURL: http://toolbox.xilinx.com/docsan/xilinx82/books/docs/v5lsc/v5lsc.pdf
pins: O (out)

## RAM16X1D_1
designator U?
16-Deep by 1-Wide Static Dual Port Synchronous RAM with Negative-Edge Clock; FPGAVendor: Xilinx; Published: 30-Jun-2006; Publisher: Altium Limited; HelpURL: http://toolbox.xilinx.com/docsan/xilinx82/books/docs/v5lsc/v5lsc.pdf
pins: A0 (in), A1 (in), A2 (in), A3 (in), D (in), DPO (out), DPRA0 (in), DPRA1 (in), DPRA2 (in), DPRA3 (in), SPO (out), WCLK (in), WE (in)

## RAM16X1S_1
designator U?
16-Deep by 1-Wide Static Synchronous RAM with Negative-Edge Clock; FPGAVendor: Xilinx; Published: 30-Jun-2006; Publisher: Altium Limited; HelpURL: http://toolbox.xilinx.com/docsan/xilinx82/books/docs/v5lsc/v5lsc.pdf
pins: A0 (in), A1 (in), A2 (in), A3 (in), D (in), O (out), WCLK (in), WE (in)

## RAM32X1S
designator U?
32-Deep by 1-Wide Static Synchronous RAM; FPGAVendor: Xilinx; Published: 30-Jun-2006; Publisher: Altium Limited; HelpURL: http://toolbox.xilinx.com/docsan/xilinx82/books/docs/v5lsc/v5lsc.pdf
pins: A0 (in), A1 (in), A2 (in), A3 (in), A4 (in), D (in), O (out), WCLK (in), WE (in)

## RAM32X1S_1
designator U?
32-Deep by 1-Wide Static Synchronous RAM with Negative-Edge Clock; FPGAVendor: Xilinx; Published: 30-Jun-2006; Publisher: Altium Limited; HelpURL: http://toolbox.xilinx.com/docsan/xilinx82/books/docs/v5lsc/v5lsc.pdf
pins: A0 (in), A1 (in), A2 (in), A3 (in), A4 (in), D (in), O (out), WCLK (in), WE (in)

## RAM32X2S
designator U?
32-Deep by 2-Wide Static Synchronous RAM; FPGAVendor: Xilinx; Published: 30-Jun-2006; Publisher: Altium Limited; HelpURL: http://toolbox.xilinx.com/docsan/xilinx82/books/docs/v5lsc/v5lsc.pdf
pins: A0 (in), A1 (in), A2 (in), A3 (in), A4 (in), D0 (in), D1 (in), O0 (out), O1 (out), WCLK (in), WE (in)

## RAM64X1D
designator U?
64-Deep by 1-Wide Dual Port Static Synchronous RAM; FPGAVendor: Xilinx; Published: 30-Jun-2006; Publisher: Altium Limited; HelpURL: http://toolbox.xilinx.com/docsan/xilinx82/books/docs/v5lsc/v5lsc.pdf
pins: A0 (in), A1 (in), A2 (in), A3 (in), A4 (in), A5 (in), D (in), DPO (out), DPRA0 (in), DPRA1 (in), DPRA2 (in), DPRA3 (in), DPRA4 (in), DPRA5 (in), SPO (out), WCLK (in), WE (in)

## RAM64X1S
designator U?
64-Deep by 1-Wide Static Synchronous RAM; FPGAVendor: Xilinx; Published: 30-Jun-2006; Publisher: Altium Limited; HelpURL: http://toolbox.xilinx.com/docsan/xilinx82/books/docs/v5lsc/v5lsc.pdf
pins: A0 (in), A1 (in), A2 (in), A3 (in), A4 (in), A5 (in), D (in), O (out), WCLK (in), WE (in)

## RAM64X1S_1
designator U?
64-Deep by 1-Wide Static Synchronous RAM with Negative-Edge Clock; FPGAVendor: Xilinx; Published: 30-Jun-2006; Publisher: Altium Limited; HelpURL: http://toolbox.xilinx.com/docsan/xilinx82/books/docs/v5lsc/v5lsc.pdf
pins: A0 (in), A1 (in), A2 (in), A3 (in), A4 (in), A5 (in), D (in), O (out), WCLK (in), WE (in)

## RAM128X1D
designator U?
128-Deep by 1-Wide Dual Port Random Access Memory (Select RAM); FPGAVendor: Xilinx; Published: 30-Jun-2006; Publisher: Altium Limited; HelpURL: http://toolbox.xilinx.com/docsan/xilinx82/books/docs/v5lsc/v5lsc.pdf
pins: A[6..0] (in), D (in), DPO (out), DPRA[6..0] (in), SPO (out), WCLK (in), WE (in)

## RAM128X1S
designator U?
128-Deep by 1-Wide Static Synchronous RAM; FPGAVendor: Xilinx; Published: 30-Jun-2006; Publisher: Altium Limited; HelpURL: http://toolbox.xilinx.com/docsan/xilinx82/books/docs/v5lsc/v5lsc.pdf
pins: A0 (in), A1 (in), A2 (in), A3 (in), A4 (in), A5 (in), A6 (in), D (in), O (out), WCLK (in), WE (in)

## RAM128X1S_1
designator U?
128-Deep by 1-Wide Static Synchronous RAM with Negative-Edge Clock; FPGAVendor: Xilinx; Published: 30-Jun-2006; Publisher: Altium Limited; HelpURL: http://toolbox.xilinx.com/docsan/xilinx82/books/docs/v5lsc/v5lsc.pdf
pins: A0 (in), A1 (in), A2 (in), A3 (in), A4 (in), A5 (in), A6 (in), D (in), O (out), WCLK (in), WE (in)

## RAM256X1S
designator U?
256-Deep by 1-Wide Random Access Memory (Select RAM); FPGAVendor: Xilinx; Published: 30-Jun-2006; Publisher: Altium Limited; HelpURL: http://toolbox.xilinx.com/docsan/xilinx82/books/docs/v5lsc/v5lsc.pdf
pins: A[7..0] (in), D (in), O (out), WCLK (in), WE (in)

## RAMB18
designator U?
18Kb Configurable Synchronous Dual Port block RAM; FPGAVendor: Xilinx; Published: 30-Jun-2006; Publisher: Altium Limited; HelpURL: http://toolbox.xilinx.com/docsan/xilinx82/books/docs/v5lsc/v5lsc.pdf
pins: ADDRA[13..0] (in), ADDRB[13..0] (in), CLKA (in), CLKB (in), DIA[15..0] (in), DIB[15..0] (in), DIPA[1..0] (in), DIPB[1..0] (in), DOA[15..0] (out), DOB[15..0] (out), DOPA[1..0] (out), DOPB[1..0] (out), ENA (in), ENB (in), REGCEA (in), REGCEB (in), SSRA (in), SSRB (in), WEA[1..0] (in), WEB[1..0] (in)

## RAMB36
designator U?
Multi-functional, Cascadable, 48-bit Output Arithmetic Logic Unit; FPGAVendor: Xilinx; Published: 30-Jun-2006; Publisher: Altium Limited; HelpURL: http://toolbox.xilinx.com/docsan/xilinx82/books/docs/v5lsc/v5lsc.pdf
pins: ADDRA[15..0] (in), ADDRB[15..0] (in), CASCADEINLATA (in), CASCADEINLATB (in), CASCADEINREGA (in), CASCADEINREGB (in), CASCADEOUTLATA (out), CASCADEOUTLATB (out), CASCADEOUTREGA (out), CASCADEOUTREGB (out), CLKA (in), CLKB (in), DIA[31..0] (in), DIB[31..0] (in), DIPA[3..0] (in), DIPB[3..0] (in), DOA[31..0] (out), DOB[15..0] (out), DOPA[3..0] (out), DOPB[1..0] (out), ENA (in), ENB (in), REGCEA (in), REGCEB (in), SSRA (in), SSRB (in), WEA[3..0] (in), WEB[3..0] (in)

## ROM16X1
designator U?
16-Deep by 1-Wide ROM; FPGAVendor: Xilinx; Published: 30-Jun-2006; Publisher: Altium Limited; HelpURL: http://toolbox.xilinx.com/docsan/xilinx82/books/docs/v5lsc/v5lsc.pdf
pins: A0 (in), A1 (in), A2 (in), A3 (in), O (out)

## ROM32X1
designator U?
32-Deep by 1-Wide ROM; FPGAVendor: Xilinx; Published: 30-Jun-2006; Publisher: Altium Limited; HelpURL: http://toolbox.xilinx.com/docsan/xilinx82/books/docs/v5lsc/v5lsc.pdf
pins: A0 (in), A1 (in), A2 (in), A3 (in), A4 (in), O (out)

## ROM64X1
designator U?
64-Deep by 1-Wide ROM; FPGAVendor: Xilinx; Published: 30-Jun-2006; Publisher: Altium Limited; HelpURL: http://toolbox.xilinx.com/docsan/xilinx82/books/docs/v5lsc/v5lsc.pdf
pins: A0 (in), A1 (in), A2 (in), A3 (in), A4 (in), A5 (in), O (out)

## ROM128X1
designator U?
128-Deep by 1-Wide ROM; FPGAVendor: Xilinx; Published: 30-Jun-2006; Publisher: Altium Limited; HelpURL: http://toolbox.xilinx.com/docsan/xilinx82/books/docs/v5lsc/v5lsc.pdf
pins: A0 (in), A1 (in), A2 (in), A3 (in), A4 (in), A5 (in), A6 (in), O (out)

## ROM256X1
designator U?
256-Deep by 1-Wide ROM; FPGAVendor: Xilinx; Published: 30-Jun-2006; Publisher: Altium Limited; HelpURL: http://toolbox.xilinx.com/docsan/xilinx82/books/docs/v5lsc/v5lsc.pdf
pins: A0 (in), A1 (in), A2 (in), A3 (in), A4 (in), A5 (in), A6 (in), A7 (in), O (out)

## SRL16_1
designator U?
16-Bit Shift Register Look-Up-Table (LUT) with Negative-Clock Edge; FPGAVendor: Xilinx; Published: 30-Jun-2006; Publisher: Altium Limited; HelpURL: http://toolbox.xilinx.com/docsan/xilinx82/books/docs/v5lsc/v5lsc.pdf
pins: A0 (in), A1 (in), A2 (in), A3 (in), CLK (in), D (in), Q (out)

## SRL16E
designator U?
16-Bit Shift Register Look-Up-Table (LUT) with Clock Enable; FPGAVendor: Xilinx; Published: 30-Jun-2006; Publisher: Altium Limited; HelpURL: http://toolbox.xilinx.com/docsan/xilinx82/books/docs/v5lsc/v5lsc.pdf
pins: A0 (in), A1 (in), A2 (in), A3 (in), CE (in), CLK (in), D (in), Q (out)

## SRL16E_1
designator U?
16-Bit Shift Register Look-Up-Table (LUT) with Negative-Edge Clock and Clock Enable; FPGAVendor: Xilinx; Published: 30-Jun-2006; Publisher: Altium Limited; HelpURL: http://toolbox.xilinx.com/docsan/xilinx82/books/docs/v5lsc/v5lsc.pdf
pins: A0 (in), A1 (in), A2 (in), A3 (in), CE (in), CLK (in), D (in), Q (out)

## SRLC16_1
designator U?
16-Bit Shift Register Look-Up Table (LUT) with Carry and Negative-Edge Clock; FPGAVendor: Xilinx; Published: 30-Jun-2006; Publisher: Altium Limited; HelpURL: http://toolbox.xilinx.com/docsan/xilinx82/books/docs/v5lsc/v5lsc.pdf
pins: A0 (in), A1 (in), A2 (in), A3 (in), CLK (in), D (in), Q (out), Q15 (out)

## SRLC16E_1
designator U?
16-Bit Shift Register Look-Up Table (LUT) with Carry, Negative-Edge Clock, and Clock Enable; FPGAVendor: Xilinx; Published: 30-Jun-2006; Publisher: Altium Limited; HelpURL: http://toolbox.xilinx.com/docsan/xilinx82/books/docs/v5lsc/v5lsc.pdf
pins: A0 (in), A1 (in), A2 (in), A3 (in), CE (in), CLK (in), D (in), Q (out), Q15 (out)

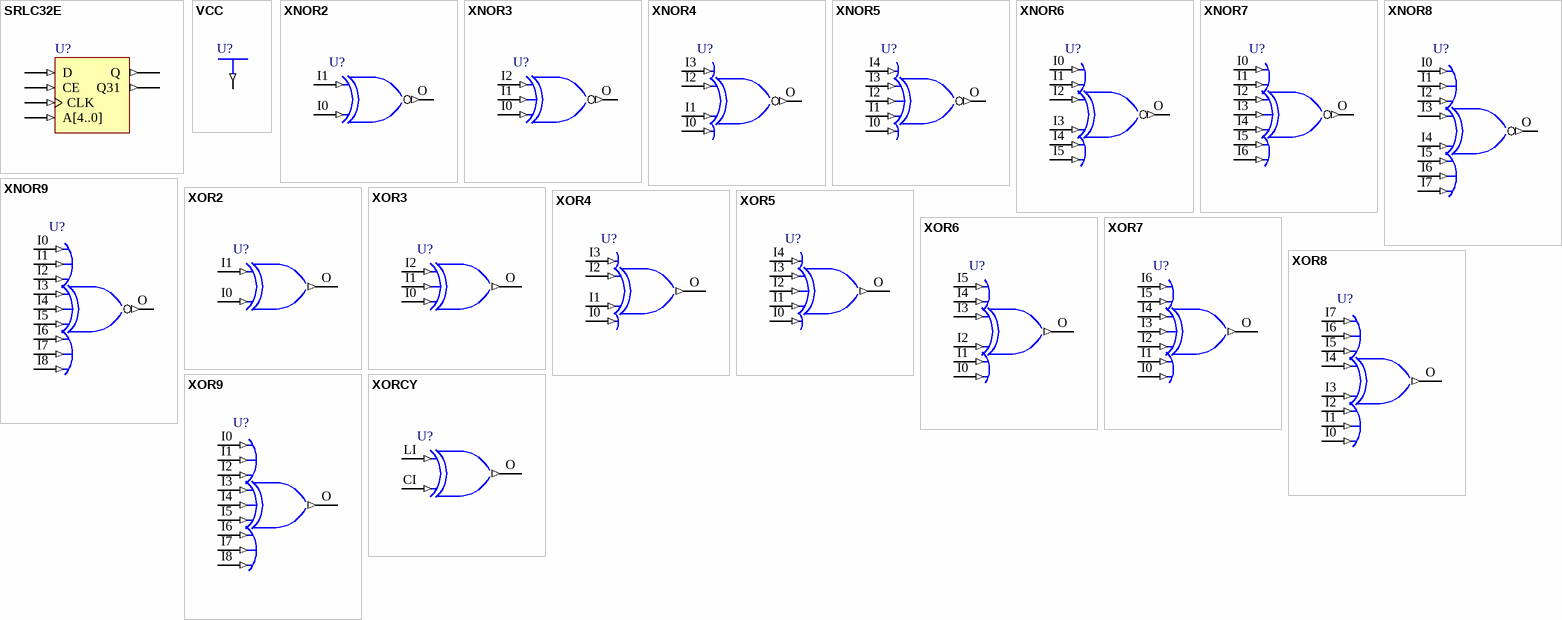
[diagram p4: symbols SRLC32E to XORCY]

## SRLC32E
designator U?
32 Clock Cycle, Variable Length Shift Register Look-Up Table (LUT) with Clock Enable; FPGAVendor: Xilinx; Published: 30-Jun-2006; Publisher: Altium Limited; HelpURL: http://toolbox.xilinx.com/docsan/xilinx82/books/docs/v5lsc/v5lsc.pdf
pins: A[4..0] (in), CE (in), CLK (in), D (in), Q (out), Q31 (out)

## VCC
designator U?
VCC-Connection Signal Tag; FPGAVendor: Xilinx; Published: 30-Jun-2006; Publisher: Altium Limited; HelpURL: http://toolbox.xilinx.com/docsan/xilinx82/books/docs/v5lsc/v5lsc.pdf
pins: P (out)

## XNOR2
designator U?
2-Input XNOR Gate; FPGAVendor: Xilinx; Published: 30-Jun-2006; Publisher: Altium Limited; HelpURL: http://toolbox.xilinx.com/docsan/xilinx82/books/docs/v5lsc/v5lsc.pdf
pins: I0 (in), I1 (in), O (out)

## XNOR3
designator U?
3-Input XNOR Gate; FPGAVendor: Xilinx; Published: 30-Jun-2006; Publisher: Altium Limited; HelpURL: http://toolbox.xilinx.com/docsan/xilinx82/books/docs/v5lsc/v5lsc.pdf
pins: I0 (in), I1 (in), I2 (in), O (out)

## XNOR4
designator U?
4-Input XNOR Gate; FPGAVendor: Xilinx; Published: 30-Jun-2006; Publisher: Altium Limited; HelpURL: http://toolbox.xilinx.com/docsan/xilinx82/books/docs/v5lsc/v5lsc.pdf
pins: I0 (in), I1 (in), I2 (in), I3 (in), O (out)

## XNOR5
designator U?
5-Input XNOR Gate; FPGAVendor: Xilinx; Published: 30-Jun-2006; Publisher: Altium Limited; HelpURL: http://toolbox.xilinx.com/docsan/xilinx82/books/docs/v5lsc/v5lsc.pdf
pins: I0 (in), I1 (in), I2 (in), I3 (in), I4 (in), O (out)

## XNOR6
designator U?
6-Input XNOR Gate; FPGAVendor: Xilinx; Published: 30-Jun-2006; Publisher: Altium Limited; HelpURL: http://toolbox.xilinx.com/docsan/xilinx82/books/docs/v5lsc/v5lsc.pdf
pins: I0 (in), I1 (in), I2 (in), I3 (in), I4 (in), I5 (in), O (out)

## XNOR7
designator U?
7-Input XNOR Gate; FPGAVendor: Xilinx; Published: 30-Jun-2006; Publisher: Altium Limited; HelpURL: http://toolbox.xilinx.com/docsan/xilinx82/books/docs/v5lsc/v5lsc.pdf
pins: I0 (in), I1 (in), I2 (in), I3 (in), I4 (in), I5 (in), I6 (in), O (out)